# EAGLE library part LM358 (library EEG)
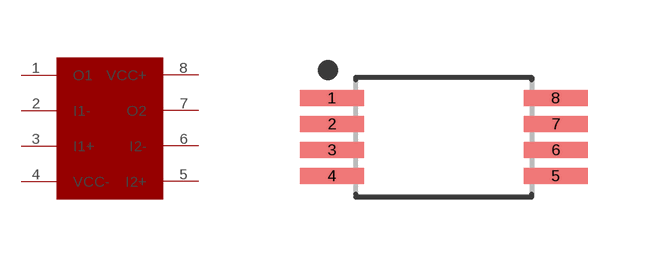
[diagram p4: symbol with the pads of LM358; footprint LM358]

Designator prefix -

## LM358  [LM358]
1  O1
2  I1-
3  I1+
4  VCC-
5  I2+
6  I2-
7  O2
8  VCC+

## Footprint LM358 (pad centres in mm)
8-SOP, 0.65 mm pitch, 6.40 mm span, 3.00 X 4.40 X 1.20 mm body 8-pin SOP package with 0.65 mm pitch, 6.40 mm span with body size 3.00 X 4.40 X 1.20 mm
smd 1.612 x 0.407: 1 -2.8,0.975; 2 -2.8,0.325; 3 -2.8,-0.325; 4 -2.8,-0.975; 5 2.8,-0.975; 6 2.8,-0.325; 7 2.8,0.325; 8 2.8,0.975